# Altium footprint library Keyboard_Lib.PcbLib: 1 footprints
Each footprint in its own frame and in the unit in brackets; x right, y up, seen from the top. Pads: shape width x height; smd on the part's side, far side on the other; paste and mask are expansions set on the pad; w line width, h text height; cw(c..) or ccw(c..) is an arc to the next point about the centre after c.
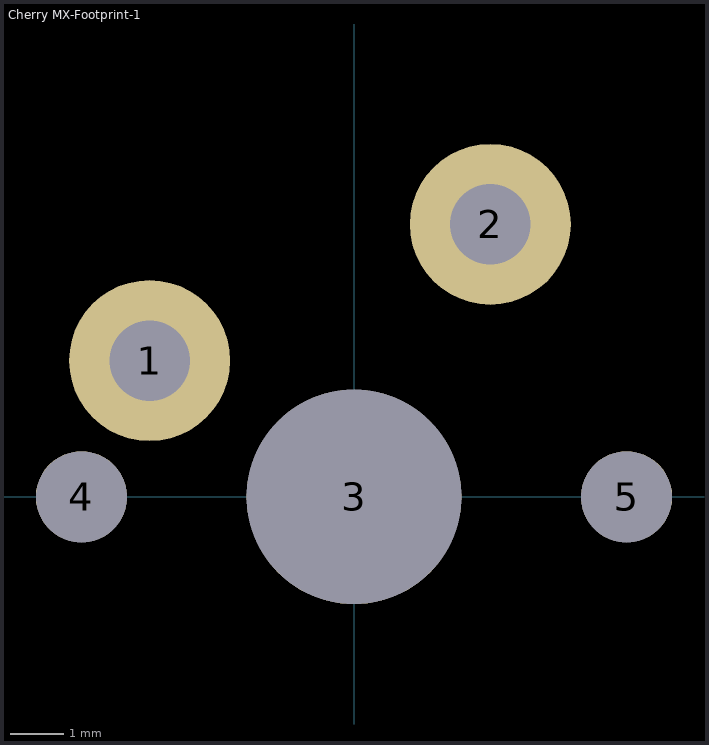
[diagram p0: the footprint, top view; thin cyan lines are the x and y axes]

## Cherry MX-Footprint-1 [mm]
pads (5):
  round 3 hole 1.5: 1(-3.81,2.54) 2(2.54,5.08)
  round 4 hole 4: 3(0,0)
  round 1.7 hole 1.7: 4(-5.08,0) 5(5.08,0)
3D body "cherry_mx.STEP": height 15.44, standoff -3.16, extent -7.726,-7.853 7.874,7.747